# EAGLE library part 74HC75D (library NXP_By_element14_Batch_1)
Quad bistable transparant latch
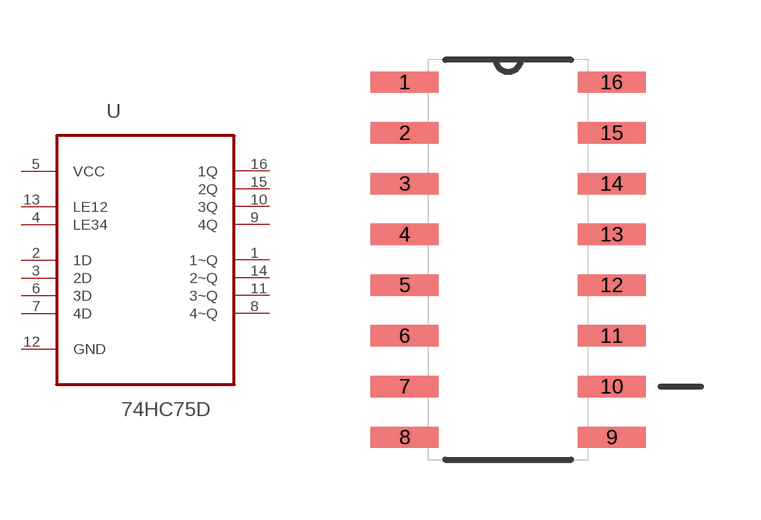
[diagram p156: symbol with the pads of SOIC127P600X175-16N; footprint SOIC127P600X175-16N]

Designator prefix U

## 74HC75D (MPN: 74HC75D; OC_FARNELL: 1085330; OC_NEWARK: 99K0601; P1I: o; PACKAGE: SOIC-16; SUPPLIER: NXP)  [SOIC127P600X175-16N]
1  1~Q  out
2  1D  in
3  2D  in
4  LE34  in
5  VCC  pwr
6  3D  in
7  4D  in
8  4~Q  out
9  4Q  out
10  3Q  out
11  3~Q  out
12  GND  pas
13  LE12  in
14  2~Q  out
15  2Q  out
16  1Q  out

## Footprint SOIC127P600X175-16N (pad centres in mm)
smd 1.702 x 0.533: 1 -2.591,4.445; 2 -2.591,3.175; 3 -2.591,1.905; 4 -2.591,0.635; 5 -2.591,-0.635; 6 -2.591,-1.905; 7 -2.591,-3.175; 8 -2.591,-4.445; 9 2.591,-4.445; 10 2.591,-3.175; 11 2.591,-1.905; 12 2.591,-0.635; 13 2.591,0.635; 14 2.591,1.905; 15 2.591,3.175; 16 2.591,4.445